# Altium footprint library Mach cau H.PcbLib: 8 footprints
Each footprint in its own frame and in the unit in brackets; x right, y up, seen from the top. Pads: shape width x height; smd on the part's side, far side on the other; paste and mask are expansions set on the pad; w line width, h text height; cw(c..) or ccw(c..) is an arc to the next point about the centre after c.
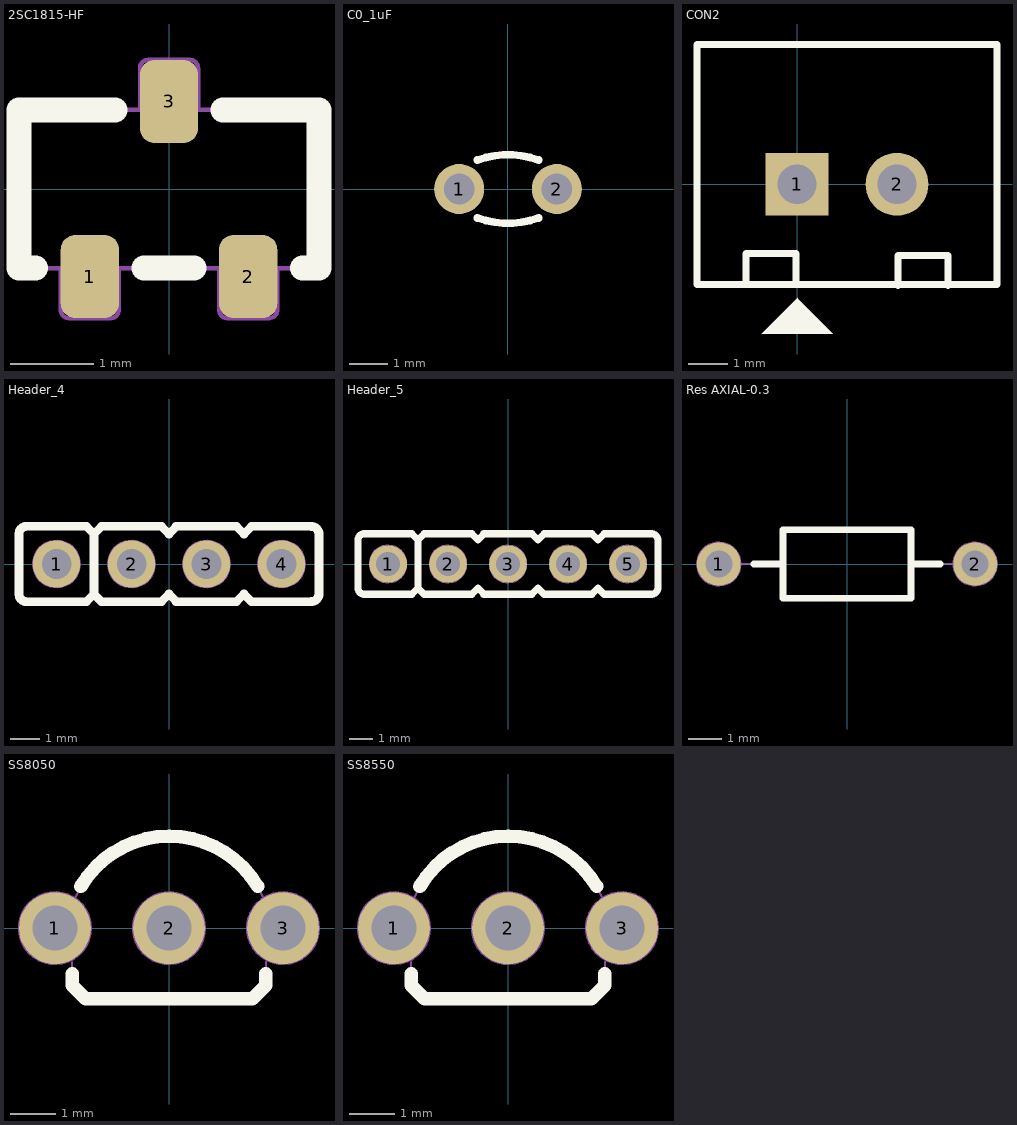
[diagram p0: the footprints below, top view; thin cyan lines are the x and y axes]

## 2SC1815-HF [mm] "SOT23-3"
height 1.4
pads (3):
  rrect50% 0.7x1 smd: 1(-0.95,-1.05) 2(0.95,-1.05) 3(0,1.05)
Top Overlay:
  lines w0.3: -1.6,-0.95 -1.8,-0.95 -1.8,0.95 -0.65,0.95 ; -0.3,-0.95 0.3,-0.95 ; 0.65,0.95 1.8,0.95 1.8,-0.95 1.6,-0.95
Mechanical 1:
  lines w0.05: -1.3,-0.95 -1.3,-1.45 ccw(c-1.2,-1.45) -1.2,-1.55 -0.7,-1.55 ccw(c-0.7,-1.45) -0.6,-1.45 -0.6,-0.95 ; -0.35,0.95 -0.35,1.45 cw(c-0.25,1.45) -0.25,1.55 0.25,1.55 cw(c0.25,1.45) 0.35,1.45 0.35,0.95 ; 0.6,-0.95 0.6,-1.45 ccw(c0.7,-1.45) 0.7,-1.55 1.2,-1.55 ccw(c1.2,-1.45) 1.3,-1.45 1.3,-0.95 ; -1.8,-0.95 -1.8,0.95 1.8,0.95 1.8,-0.95 -1.8,-0.95
  text "E" at 0.76,-0.855 h1
  text "C" at -0.285,0.19 h1
  text "B" at -1.14,-0.855 h1
3D body "SOT23.STEP": height 1.08, standoff 0, extent -1.5,-1.32 1.5,1.32

## C0_1uF [mm] "Tu gom 3.5wf104mabaa 05 x 1.78 x 3.43 mm (WxTxH max); Pin Spacing 2.54 mm (typ)"
height 3.43
pads (2):
  round 1.3 hole 0.8: 1(-1.27,0) 2(1.27,0)
Top Overlay:
  lines w0.2: -0.8,-0.753 ccw(c0,1.507) 0.8,-0.753 ; -0.8,0.753 cw(c0,-1.507) 0.8,0.753 ; -0.053,-0.89 0.041,-0.89 ; -0.041,0.89 0.053,0.89
3D body "Ceramic Cap 100n.STEP": height 6.42, standoff -1.5, extent -2.917,-0.848 2.921,0.848

## CON2 [mm] "CON2"
height 5.08
pads (2):
  rect 1.6x1.6 hole 1 mask+0.1: 1(0,0)
  round 1.6 hole 1 mask+0.1: 2(2.54,0)
Top Overlay:
  region: -0.902,-3.797 0.902,-3.797 0.013,-2.908 0.013,-2.883
  lines w0.178: -1.295,-2.515 -1.295,-1.753 -0.025,-1.753 -0.025,-2.515 ; 2.565,-2.565 2.565,-1.803 3.835,-1.803 3.835,-2.565 ; -2.54,-2.54 5.08,-2.54 5.08,3.556 -2.54,3.556 -2.54,-2.54
3D body "User Library-PCB HEADER (JST BxB-PH-K-S (VERTICAL)).STEP": height 6, standoff -1.91, extent -1.73,-1.778 4.27,2.722

## Header_4 [mm] "Connector DIP, 4Pin_2.54mm"
height 5
pads (4):
  round 1.6 hole 1 mask+0.1: 1(-3.81,0) 2(-1.27,0) 3(1.27,0) 4(3.81,0)
Top Overlay:
  lines w0.3: -2.794,-1.28 -2.794,-1.27 ; -2.794,1.27 -2.54,1.016 ; -2.794,1.28 -4.84,1.28 ccw(c-4.82,1.02) -5.08,1 -5.08,-1 ccw(c-4.82,-1.02) -4.84,-1.28 -2.804,-1.28 -2.794,-1.27 ; -2.286,1.27 -2.54,1.016 ; -2.286,1.28 -0.254,1.28 -0.254,1.27 0,1.016 0.254,1.27 ; 0.24,-1.28 2.276,-1.28 2.286,-1.27 ; 0.24,1.28 2.286,1.28 ; 0.254,-1.27 0,-1.016 -0.254,-1.27 -0.254,-1.28 -2.286,-1.28 -2.54,-1.026 ; 2.286,-1.28 2.286,-1.27 ; 2.286,1.27 2.54,1.016 2.794,1.27 ; 2.794,1.28 4.826,1.28 4.826,1.27 ; 4.8,-1.28 ccw(c4.8,-1) 5.08,-1 5.08,1 ccw(c4.8,1) 4.8,1.28 ; 4.826,-1.27 4.826,-1.28 2.794,-1.28 2.54,-1.026 2.54,-1.016 2.286,-1.27 ; -2.794,-1.27 -2.54,-1.016 -2.54,-1.026 ; -2.54,-1.026 -2.54,1.016
Mechanical 1:
  circle w0.05: c3.81,0 r0.8
  circle w0.05: c1.27,0 r0.8
  circle w0.05: c-1.27,0 r0.8
  circle w0.05: c-3.81,0 r0.8
  circle w0.05: c-3.81,0 r0.8
  lines w0.05: -2.794,-1.28 -2.794,-1.27 ; -2.794,1.27 -2.54,1.016 -2.286,1.27 ; -2.794,1.28 -4.84,1.28 ccw(c-4.82,1.02) -5.08,1 -5.08,-1 ccw(c-4.82,-1.02) -4.84,-1.28 -2.804,-1.28 -2.794,-1.27 ; -2.286,1.28 -0.254,1.28 -0.254,1.27 0,1.016 0.254,1.27 ; 0.24,-1.28 2.276,-1.28 2.286,-1.27 ; 0.24,1.28 2.286,1.28 ; 0.254,-1.27 0,-1.016 -0.254,-1.27 -0.254,-1.28 -2.286,-1.28 -2.54,-1.026 -2.54,-1.016 -2.794,-1.27 ; 2.286,-1.28 2.286,-1.27 ; 2.286,1.27 2.54,1.016 2.794,1.27 ; 2.54,-1.026 2.794,-1.28 4.826,-1.28 4.826,-1.27 ; 2.54,-1.016 2.286,-1.27 ; 2.794,1.28 4.826,1.28 4.826,1.27 ; 4.8,-1.28 ccw(c4.8,-1) 5.08,-1 5.08,1 ccw(c4.8,1) 4.8,1.28
  text "1" at -4.064,-0.254 h1
  text "4" at 3.556,-0.254 h1
3D body "Header 1x4.STEP": height 10.1, standoff -1.5, extent -5.08,-1.27 5.08,1.27

## Header_5 [mm] "Connector DIP, 5Pin_2.54mm"
height 5
pads (5):
  round 1.6 hole 1 mask+0.1: 1(-5.08,0) 2(-2.54,0) 3(0,0) 4(2.54,0) 5(5.08,0)
Top Overlay:
  lines w0.3: -4.064,-1.28 -4.064,-1.27 ; -4.064,1.27 -3.81,1.016 ; -4.064,1.28 -6.11,1.28 ccw(c-6.09,1.02) -6.35,1 -6.35,-1 ccw(c-6.09,-1.02) -6.11,-1.28 -4.074,-1.28 -4.064,-1.27 ; -3.556,1.27 -3.81,1.016 ; -3.556,1.28 -1.524,1.28 -1.524,1.27 -1.27,1.016 -1.016,1.27 ; -1.03,-1.28 1.006,-1.28 1.016,-1.27 ; -1.03,1.28 1.016,1.28 ; -1.016,-1.27 -1.27,-1.016 -1.524,-1.27 -1.524,-1.28 -3.556,-1.28 -3.81,-1.026 -3.81,-1.016 ; 1.016,-1.28 1.016,-1.27 ; 1.016,1.27 1.27,1.016 1.524,1.27 ; 1.524,1.28 3.556,1.28 ; 3.556,-1.28 1.524,-1.28 1.27,-1.026 1.27,-1.016 1.016,-1.27 ; 3.556,-1.27 3.81,-1.016 3.81,-1.026 4.064,-1.28 6.096,-1.28 6.096,-1.27 ; 3.556,1.27 3.81,1.016 4.064,1.27 ; 4.064,1.28 6.096,1.28 6.096,1.27 ; 6.07,-1.28 ccw(c6.07,-1) 6.35,-1 6.35,1 ccw(c6.07,1) 6.07,1.28 ; -4.064,-1.27 -3.81,-1.016 ; -3.81,-1.016 -3.81,1.016
Mechanical 1:
  circle w0.05: c-5.08,0 r0.8
  circle w0.05: c-5.08,0 r0.8
  circle w0.05: c-2.54,0 r0.8
  circle w0.05: c0,0 r0.8
  circle w0.05: c2.54,0 r0.8
  circle w0.05: c5.08,0 r0.8
  lines w0.05: -4.064,-1.28 -4.064,-1.27 ; -4.064,1.27 -3.81,1.016 -3.556,1.27 ; -4.064,1.28 -6.11,1.28 ccw(c-6.09,1.02) -6.35,1 -6.35,-1 ccw(c-6.09,-1.02) -6.11,-1.28 -4.074,-1.28 -4.064,-1.27 ; -3.556,1.28 -1.524,1.28 -1.524,1.27 -1.27,1.016 -1.016,1.27 ; -1.03,-1.28 1.006,-1.28 1.016,-1.27 ; -1.03,1.28 1.016,1.28 ; -1.016,-1.27 -1.27,-1.016 -1.524,-1.27 -1.524,-1.28 -3.556,-1.28 -3.81,-1.026 -3.81,-1.016 -4.064,-1.27 ; 1.016,-1.28 1.016,-1.27 ; 1.016,1.27 1.27,1.016 1.524,1.27 ; 1.524,1.28 3.556,1.28 ; 3.556,-1.28 1.524,-1.28 1.27,-1.026 1.27,-1.016 1.016,-1.27 ; 3.556,-1.27 3.81,-1.016 3.81,-1.026 4.064,-1.28 6.096,-1.28 6.096,-1.27 ; 3.556,1.27 3.81,1.016 4.064,1.27 ; 4.064,1.28 6.096,1.28 6.096,1.27 ; 6.07,-1.28 ccw(c6.07,-1) 6.35,-1 6.35,1 ccw(c6.07,1) 6.07,1.28
  text "5" at 4.826,-0.254 h1
  text "1" at -5.334,-0.254 h1
3D body "Header 1x5.STEP": height 10.1, standoff -1.5, extent -6.35,-1.27 6.35,1.27

## Res AXIAL-0.3 [mm] "Axial Device, Thru-Hole; 2 Leads; 0.3 in Pin Spacing"
height 2
pads (2):
  round 1.3 hole 0.8: 1(-3.81,0) 2(3.81,0)
Top Overlay:
  lines w0.2: -2.769,0 -1.905,0 ; 2.769,0 1.905,0 ; 1.905,0 1.905,1.016 -1.905,1.016 -1.905,-1.016 1.905,-1.016 1.905,0
Mechanical 1:
  circle w0.05: c-3.81,0 r0.65
  circle w0.05: c3.81,0 r0.65
  lines w0.05: -3.16,0 -1.905,0 ; 3.163,0 1.905,0 ; 1.905,0 1.905,1.016 -1.905,1.016 -1.905,-1.016 1.905,-1.016 1.905,0
3D body "User Library-CCF50__10K0_b7.STEP": height 1.6, standoff -2.45, extent -4.075,-0.8 4.075,0.8

## SS8050 [mm] "TO-92 Bent Lead, Flat Index; 3 In-Line, Axial Leads; Body Dia. 4.5mm; Leads 0.51 x 0.48 mm (max)"
height 6
pads (3):
  round 1.6 hole 1 mask+0.1: 1(-2.54,0) 2(0,0) 3(2.54,0)
Top Overlay:
  lines w0.3: -2.159,-1.016 -2.159,-1.27 -1.859,-1.57 1.859,-1.57 2.159,-1.27 2.159,-1.016 ; -1.963,0.928 cw(c0.006,-0.242) 1.973,0.931
Mechanical 1:
  circle w0.05: c2.54,0 r0.8
  circle w0.05: c0,0 r0.8
  circle w0.05: c-2.54,0 r0.8
  lines w0.05: -2.159,-0.762 -2.159,-1.27 -1.859,-1.57 1.859,-1.57 2.159,-1.27 2.159,-0.762 ; -2.098,0.663 cw(c0.006,-0.242) 2.108,0.668
  text "C" at 2.286,-0.381 h1
  text "B" at -0.254,-0.381 h1
  text "E" at -2.794,-0.381 h1
Mechanical 15:
  lines w0.1: -0.5,0 0.5,0 ; 0,-0.5 0,0.5
3D body "TO-92_Bent.STEP": height 10, standoff -3, extent -2.79,-1.59 2.79,2.613

## SS8550 [mm] "TO-92 Bent Lead, Flat Index; 3 In-Line, Axial Leads; Body Dia. 4.5mm; Leads 0.51 x 0.48 mm (max)"
height 6
pads (3):
  round 1.6 hole 1 mask+0.1: 1(-2.54,0) 2(0,0) 3(2.54,0)
Top Overlay:
  lines w0.3: -2.159,-1.016 -2.159,-1.27 -1.859,-1.57 1.859,-1.57 2.159,-1.27 2.159,-1.016 ; -1.963,0.928 cw(c0.006,-0.242) 1.973,0.931
Mechanical 1:
  circle w0.05: c-2.54,0 r0.8
  circle w0.05: c0,0 r0.8
  circle w0.05: c2.54,0 r0.8
  lines w0.05: -2.159,-0.762 -2.159,-1.27 -1.859,-1.57 1.859,-1.57 2.159,-1.27 2.159,-0.762 ; -2.098,0.663 cw(c0.006,-0.242) 2.108,0.668
  text "E" at -2.794,-0.381 h1
  text "B" at -0.254,-0.381 h1
  text "C" at 2.286,-0.381 h1
Mechanical 15:
  lines w0.1: -0.5,0 0.5,0 ; 0,-0.5 0,0.5
3D body "TO-92_Bent.STEP": height 10, standoff -3, extent -2.79,-1.59 2.79,2.613